# Altium integrated library SSM3J328R_LF.IntLib: 1 symbol
Pins are listed as number, name and electrical type; pins without a type are passive.

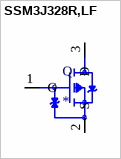
[diagram p0: symbol SSM3J328R,LF]

## SSM3J328R,LF
designator Q
P-Channel 20V 6A _Ta_ 1W _Ta_ Surface Mount SOT-23F; MP: SSM3J328R,LF; MF: Toshiba; SnapEDA_Link: https://www.snapeda.com/parts/SSM3J328R,LF/Toshiba%20Semiconductor%20and%20Storage/view-part/214715/?ref=snap; Availability: Unavailable; Package: SOT-23 Toshiba; Value: *; Price: None
footprint SOT95P240X88-3N
pins: 1 G, 2 S, 3 D